# EAGLE library part IMS-DMS_PREAMP (library di_pcb)
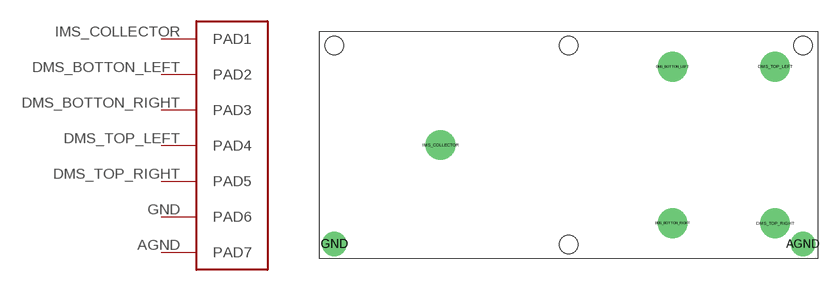
[diagram p1: symbol with the pads of IMS-DMS_PREAMP; footprint IMS-DMS_PREAMP]

Designator prefix -

## IMS-DMS_PREAMP  [IMS-DMS_PREAMP]
AGND  PAD7
DMS_BOTTON_LEFT  PAD2
DMS_BOTTON_RIGHT  PAD3
DMS_TOP_LEFT  PAD4
DMS_TOP_RIGHT  PAD5
GND  PAD6
IMS_COLLECTOR  PAD1

## Footprint IMS-DMS_PREAMP (pad centres in mm)
drill 2.3 pad 2.9: AGND 66,2; GND 2,2
drill 2.5 pad 4.064: DMS_BOTTON_LEFT 48.2,26.2; DMS_BOTTON_RIGHT 48.2,4.8; DMS_TOP_LEFT 62.2,26.2; DMS_TOP_RIGHT 62.2,4.8; IMS_COLLECTOR 16.5,15.5
hole 2.5 at 2,29.1
hole 2.5 at 34,29.1
hole 2.5 at 34,1.9
hole 2.5 at 66,29.1